# EAGLE library part SSD1306-128X32 (library xiao)
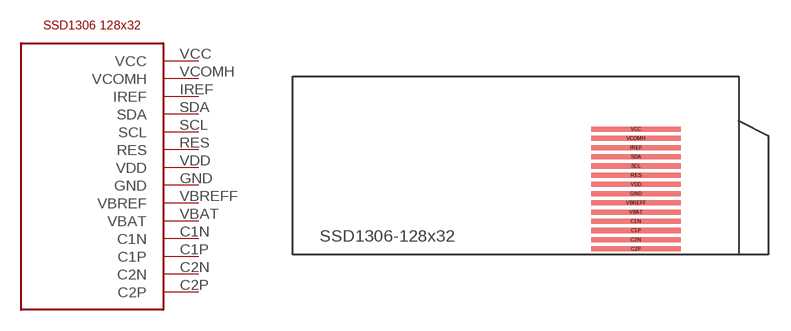
[diagram p1: symbol with the pads of DS1306-128X32; footprint DS1306-128X32]

Designator prefix -

## SSD1306-128X32  [DS1306-128X32]
C1N  C1N
C1P  C1P
C2N  C2N
C2P  C2P
GND  GND
IREF  IREF
RES  RES
SCL  SCL
SDA  SDA
VBAT  VBAT
VBREFF  VBREF
VCC  VCC
VCOMH  VCOMH
VDD  VDD

## Footprint DS1306-128X32 (pad centres in mm)
smd 6 x 0.34: C1N 23.1,2.24; C1P 23.1,1.62; C2N 23.1,1; C2P 23.1,0.38; GND 23.1,4.1; IREF 23.1,7.2; RES 23.1,5.34; SCL 23.1,5.96; SDA 23.1,6.58; VBAT 23.1,2.86; VBREFF 23.1,3.48; VCC 23.1,8.44; VCOMH 23.1,7.82; VDD 23.1,4.72